# EAGLE library part 55917-20 (library con-molex-minifit)
DIP connector 2mm 20 way
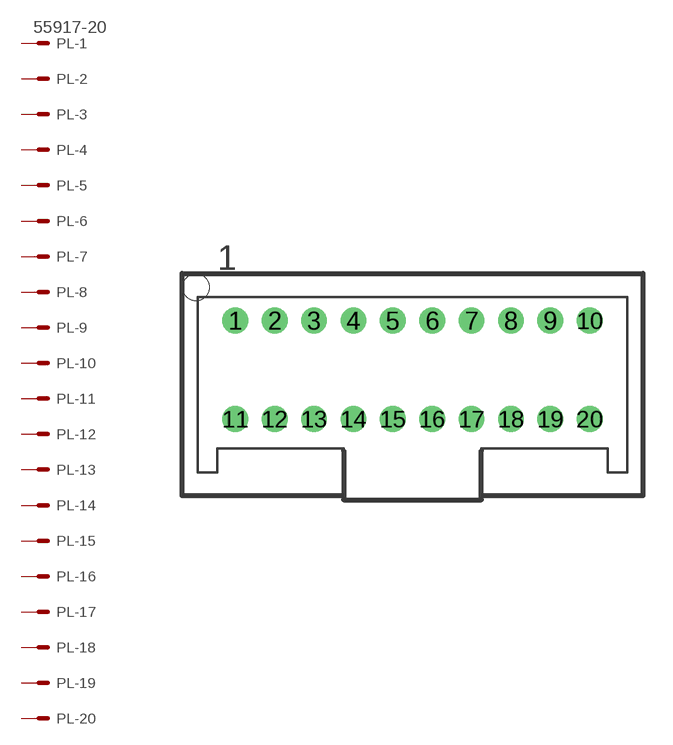
[diagram p16: symbol with the pads of 55917-20; footprint 55917-20]

Designator prefix PL; gates -1=MV -2=M -3=M -4=M -5=M -6=M -7=M -8=M -9=M -10=M -11=M -12=M -13=M -14=M -15=M -16=M -17=M -18=M -19=M -20=M

## 55917-20  [55917-20]
1  -1:S  pas
2  -2:S  pas
3  -3:S  pas
4  -4:S  pas
5  -5:S  pas
6  -6:S  pas
7  -7:S  pas
8  -8:S  pas
9  -9:S  pas
10  -10:S  pas
11  -11:S  pas
12  -12:S  pas
13  -13:S  pas
14  -14:S  pas
15  -15:S  pas
16  -16:S  pas
17  -17:S  pas
18  -18:S  pas
19  -19:S  pas
20  -20:S  pas

## Footprint 55917-20 (pad centres in mm)
DIP connector 2mm 20 way
drill 0.8 round: 1 -9,2.5; 2 -7,2.5; 3 -5,2.5; 4 -3,2.5; 5 -1,2.5; 6 1,2.5; 7 3,2.5; 8 5,2.5; 9 7,2.5; 10 9,2.5; 11 -9,-2.5; 12 -7,-2.5; 13 -5,-2.5; 14 -3,-2.5; 15 -1,-2.5; 16 1,-2.5; 17 3,-2.5; 18 5,-2.5; 19 7,-2.5; 20 9,-2.5
hole 1.35 at -11,4.2